# EAGLE library part CHT2623 (library lcd_glass)
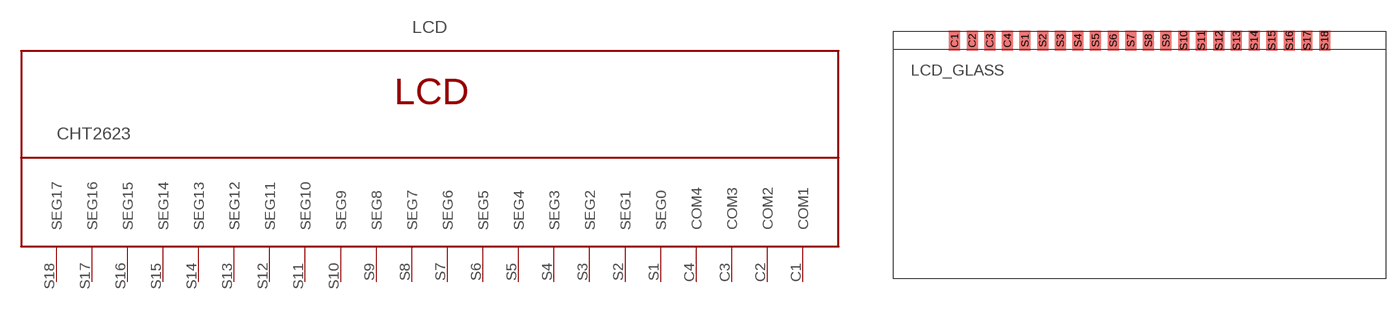
[diagram p0: symbol with the pads of CHT2623; footprint CHT2623]

Designator prefix LCD

## CHT2623  [CHT2623]
C1  COM1
C2  COM2
C3  COM3
C4  COM4
S1  SEG0
S2  SEG1
S3  SEG2
S4  SEG3
S5  SEG4
S6  SEG5
S7  SEG6
S8  SEG7
S9  SEG8
S10  SEG9
S11  SEG10
S12  SEG11
S13  SEG12
S14  SEG13
S15  SEG14
S16  SEG15
S17  SEG16
S18  SEG17

## Footprint CHT2623 (pad centres in mm)
smd 1.25 x 2.25: C1 7,27; C2 9,27; C3 11,27; C4 13,27; S1 15,27; S2 17,27; S3 19,27; S4 21,27; S5 23,27; S6 25,27; S7 27,27; S8 29,27; S9 31,27; S10 33,27; S11 35,27; S12 37,27; S13 39,27; S14 41,27; S15 43,27; S16 45,27; S17 47,27; S18 49,27